# EAGLE library part PCA9531 (library lpatiny copy)
I2C-Bus 8-bit LED dimmer r http://www.nxp.com/documents/data_sheet/PCA9531.pdf
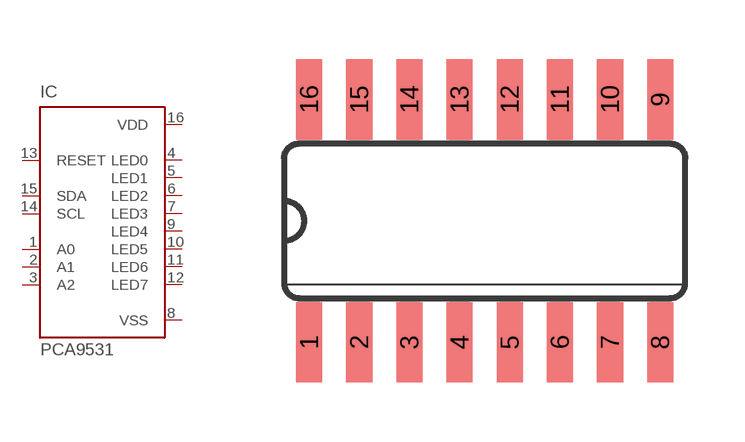
[diagram p9: symbol with the pads of SO16; footprint SO16]

Designator prefix IC

## PCA9531  [SO16]
1  A0  in
2  A1  in
3  A2  in
4  LED0
5  LED1
6  LED2
7  LED3
8  VSS  pwr
9  LED4
10  LED5
11  LED6
12  LED7
13  RESET  in
14  SCL  in
15  SDA
16  VDD  pwr

## Footprint SO16 (pad centres in mm)
Small Outline Package
smd 0.66 x 2.032: 1 -4.445,-3.073; 2 -3.175,-3.073; 3 -1.905,-3.073; 4 -0.635,-3.073; 5 0.635,-3.073; 6 1.905,-3.073; 7 3.175,-3.073; 8 4.445,-3.073; 9 4.445,3.073; 10 3.175,3.073; 11 1.905,3.073; 12 0.635,3.073; 13 -0.635,3.073; 14 -1.905,3.073; 15 -3.175,3.073; 16 -4.445,3.073